# Altium schematic symbol library HPL505032F1060MRD3P.SchLib: 1 symbol
Pins are listed as number, name and electrical type; pins without a type are passive.

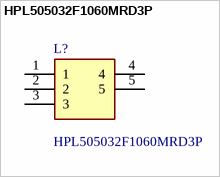
[diagram p0: symbol HPL505032F1060MRD3P]

## HPL505032F1060MRD3P
designator L?
SMD / SMT Inductors (Coils), L=60nH, L x W x T :5X5X3.2; Manufacturer_Name: TDK; Geometry.Height: 3.2mm; Manufacturer_Part_Number: HPL505032F1060MRD3P; Mouser Part Number: 810-HPL505032F1060MR; Mouser Price/Stock: https://www.mouser.co.uk/ProductDetail/TDK/HPL505032F1060MRD3P?qs=IS%252B4QmGtzzqd3KnOU0RKMQ%3D%3D; Arrow Part Number: *; Arrow Price/Stock: *; Datasheet Link: https://product.tdk.com/system/files/dam/doc/product/inductor/inductor/smd/catalog/inductor_automotive_power_hpl505032f1_en.pdf
footprint HPL505032F1060MRD3P
pins: 1, 2, 3, 4, 5